# Altium schematic symbol library SCH - MEMORY - Infineon S26HS512TGABHI010.SchLib: 1 symbol
Pins are listed as number, name and electrical type; pins without a type are passive.

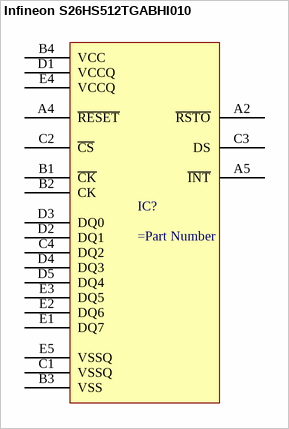
[diagram p0: symbol Infineon S26HS512TGABHI010]

## Infineon S26HS512TGABHI010
designator IC?
pins: A2 ~{RSTO}, A4 ~{RESET}, A5 ~{INT}, B1 ~{CK}, B2 CK, B3 VSS, B4 VCC, C1 VSSQ, C2 ~{CS}, C3 DS, C4 DQ2, D1 VCCQ, D2 DQ1, D3 DQ0, D4 DQ3, D5 DQ4, E1 DQ7, E2 DQ6, E3 DQ5, E4 VCCQ, E5 VSSQ